# EAGLE library part 750032395 (library WE-POE)
WE-PoE Power over Ethernet Transformer Characteristics Flyback transformer designed for PoE PDs Input voltage: 36 V to 57 V Switching frequencies: 200–500 kHz Operating temperature: –40 ºC to +125 ºC Isolation voltage: 1.5 kVAC/1 min Different output powers and voltages available Applications PoE powered devices IP Phones WLAN Access Points Access control terminals Security cameras <https://www.we-online.com/components/media/o766301v209%20Family-POE.jpg> Details see: www.we-online.com/en/components/products/WE-POE <www.we-online.com/catalog/WE-POE/?utm_source=eagle_model&utm_medium=description_link&utm_campaign=eisos_eagle> Updated by Ella 2025-06-12 2025 (C) Würth Elektronik
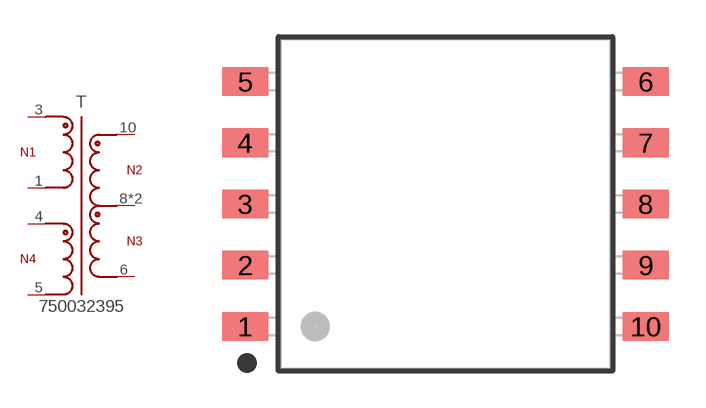
[diagram p10: symbol with the pads of WE-POE_EP13_L17.75W13.46H12.7; footprint WE-POE_EP13_L17.75W13.46H12.7]

Designator prefix T

## 750032395 (DATASHEET-URL: https://www.we-online.com/redexpert/spec/750032395?ae; IO1: 0.5A; IO2: 3.2A; L: 37uH; MOUNT: SMT; N: 10.5:1:2:5.5; PART-NUMBER: 750032395; SIZE: EP13; VALUE: 750032395; VERSION: Flyback; VIN: 13 - 59 V (DC); VO1: 5V; VO2: 3.3V; VT: 1500VAC)  [WE-POE_EP13_L17.75W13.46H12.7]
1  1  pas
3  3  pas
4  4  pas
5  5  pas
6  6  pas
8  8+9  pas
9  8+9  pas
10  10  pas

## Footprint WE-POE_EP13_L17.75W13.46H12.7 (pad centres in mm)
WE-PoE Power over Ethernet Transformer EP13, SMT, 10Pins LXWXH=17.75X13.46X12.7mm
smd 1.88 x 1.17: 1 -8.18,-5; 2 -8.18,-2.5; 3 -8.18,0; 4 -8.18,2.5; 5 -8.18,5; 6 8.18,5; 7 8.18,2.5; 8 8.18,0; 9 8.18,-2.5; 10 8.18,-5